# Altium schematic symbol library Interface_CAN_LIN.SchLib: 97 symbols (part 2 of 2)
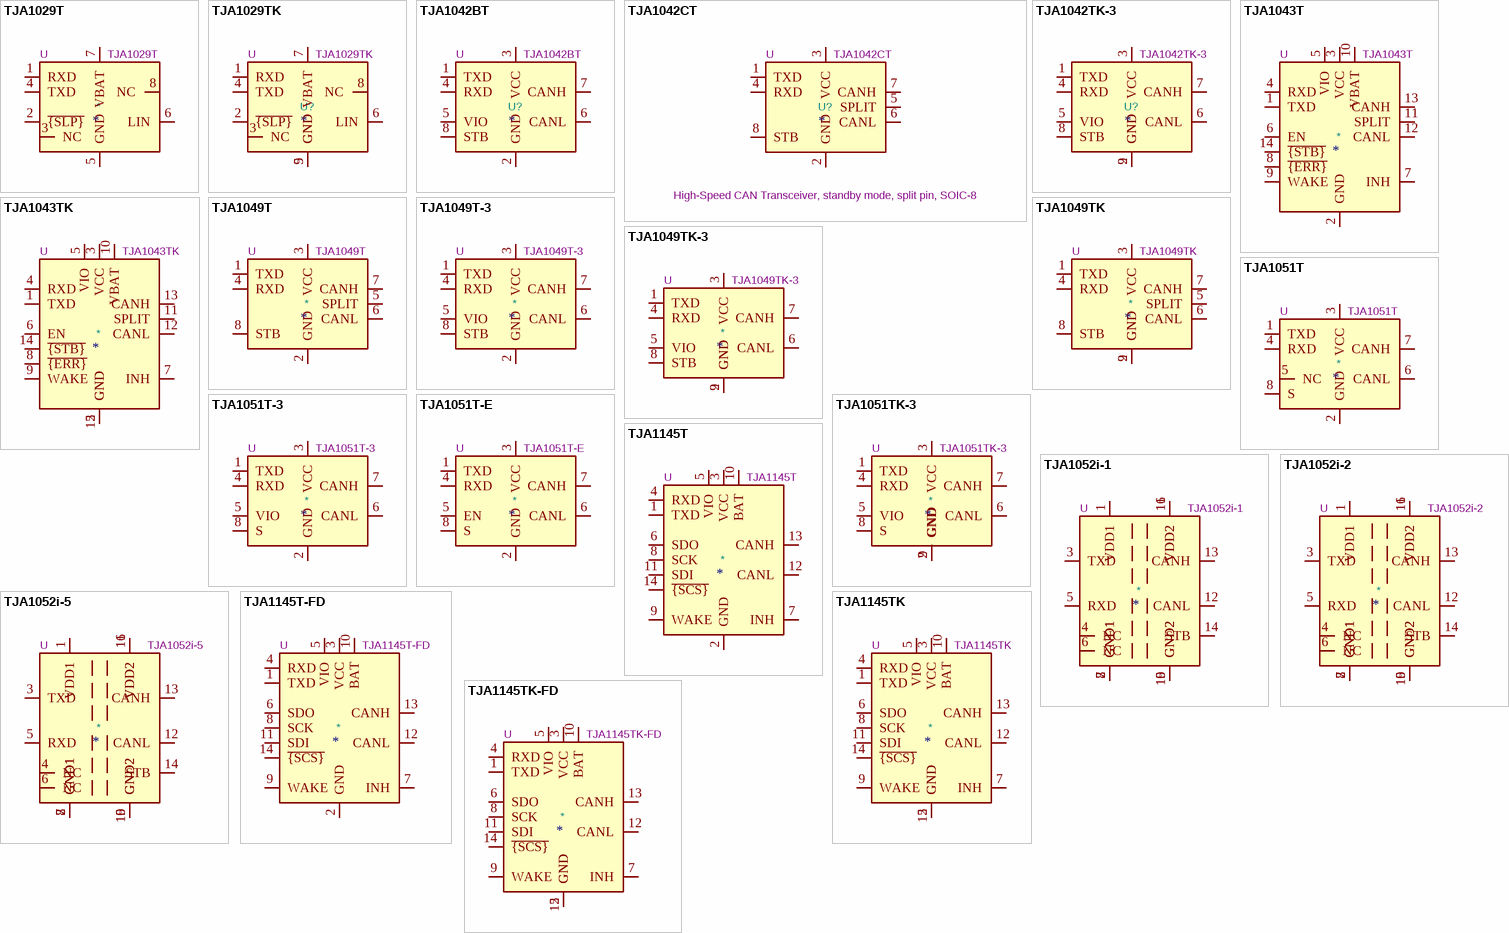
[diagram p3: symbols TJA1029T to TJA1145TK-FD]

## TJA1145T-FD
designator *  value TJA1145T-FD  Reference: U
High-speed CAN transceiver for partial networking with FD-passive function, SOIC-14; ki_keywords: CAN FD High Speed CAN Transceiver Sleep VIO Partial Networking SPI; ki_fp_filters: SOIC*3.9x8.7mm*P1.27mm*; Footprint: Package_SO:SOIC-14_3.9x8.7mm_P1.27mm; Datasheet: https://www.nxp.com/docs/en/data-sheet/TJA1145.pdf; Description_: High-speed CAN transceiver for partial networking with FD-passive function, SOIC-14
pins: 1 TXD, 2 GND, 3 VCC, 4 RXD, 5 VIO, 6 SDO, 7 INH, 8 SCK, 9 WAKE, 10 BAT, 11 SDI, 12 CANL, 13 CANH, 14 ~{{SCS}}

## TJA1145TK
designator *  value TJA1145TK  Reference: U
High-speed CAN transceiver for partial networking, DFN-14; ki_keywords: CAN FD High Speed CAN Transceiver Sleep VIO Partial Networking SPI; ki_fp_filters: DFN*1EP*3x4.5mm*P0.65mm*; Footprint: Package_DFN_QFN:DFN-14-1EP_3x4.5mm_P0.65mm_EP1.65x4.25mm; Datasheet: https://www.nxp.com/docs/en/data-sheet/TJA1145.pdf; Description_: High-speed CAN transceiver for partial networking, DFN-14
pins: 1 TXD, 2 GND, 3 VCC, 4 RXD, 5 VIO, 6 SDO, 7 INH, 8 SCK, 9 WAKE, 10 BAT, 11 SDI, 12 CANL, 13 CANH, 14 ~{{SCS}}, 15 GND

## TJA1145TK-FD
designator *  value TJA1145TK-FD  Reference: U
High-speed CAN transceiver for partial networking with FD-passive function, DFN-14; ki_fp_filters: DFN*1EP*3x4.5mm*P0.65mm*; Footprint: Package_DFN_QFN:DFN-14-1EP_3x4.5mm_P0.65mm_EP1.65x4.25mm; Datasheet: https://www.nxp.com/docs/en/data-sheet/TJA1145.pdf; Description_: High-speed CAN transceiver for partial networking with FD-passive function, DFN-14
pins: 1 TXD, 2 GND, 3 VCC, 4 RXD, 5 VIO, 6 SDO, 7 INH, 8 SCK, 9 WAKE, 10 BAT, 11 SDI, 12 CANL, 13 CANH, 14 ~{{SCS}}, 15 GND